# Altium schematic symbol library SMD Passive.SchLib: 216 symbols (part 3 of 4)
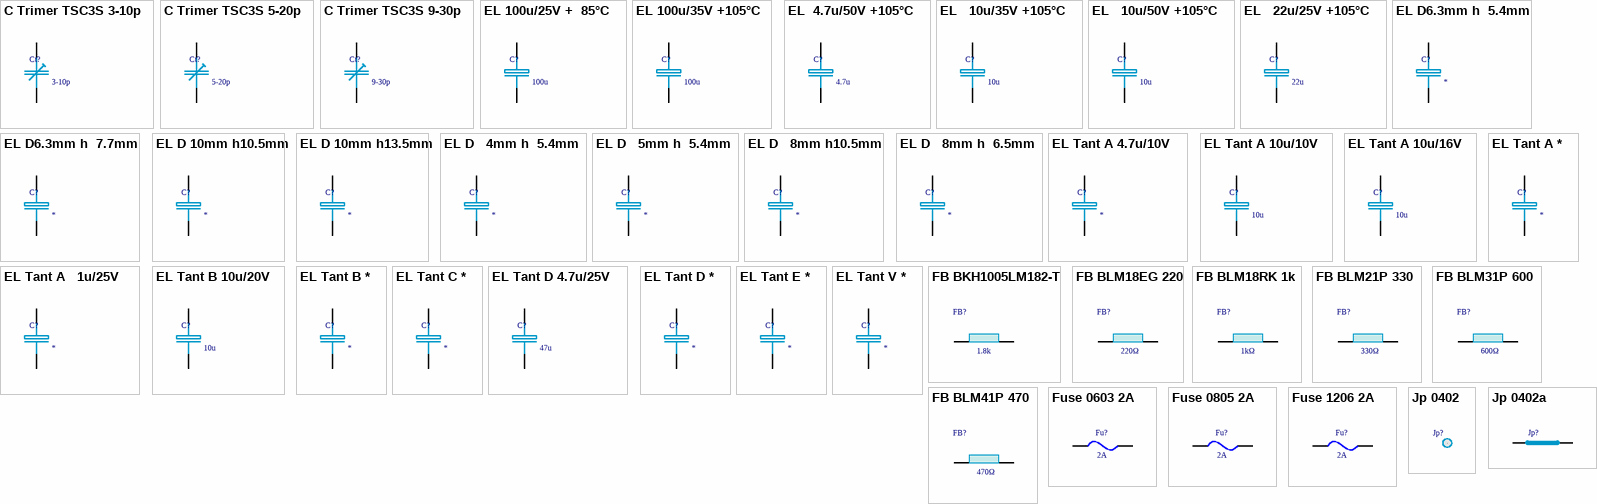
[diagram p7: symbols C Trimer TSC3S 3-10p to Jp 0402a]

## EL   10u/35V +105°C
designator C?, comment 10u
SMD D   5mm h  5.4mm; Part Number: CK1V100M-CRD54; Manufacturer: Fujicon; VDC: 35V; Tolerance %: ±20%; TYPE: Capacitors; Load life: 2000h @ +105°C; Mount Type: SMT; Publisher: Hefest; Manufacturer Alternate: *; Part Number Alternate: *; Published: 07.04.2019; Supplier 1: Comet; Supplier Part Number 1: CE 10uF 35V SMD 105C Fujicon; RoHS: Y; Technology: Electrolytic Aluminum; Package: D5mm h5.4mm; TempCo: *; VAC: *; ESR Ohm: *; ComponentLink1Description: Datasheet Link; ComponentLink1URL: https://store.comet.bg/download-file.php?id=10100; Temperature Range: -40°C ~ +105°C; Price: 0.086; Value: 10u
simulation model Capacitor (Model Description)
signal-integrity model Capacitor (Model Description)
footprint EL SMD D5 h5.4
pins: 1, 2
1 alternate drawing of the same symbol

## EL   10u/50V +105°C
designator C?, comment 10u
SMD D   5mm h  5.4mm; Part Number: CK1H100M-CRE54; Manufacturer: Fujicon; VDC: 50V; Tolerance %: ±20%; TYPE: Capacitors; Load life: 2000h @ +105°C; Mount Type: SMT; Publisher: Hefest; Manufacturer Alternate: *; Part Number Alternate: *; Published: 07.04.2019; Supplier 1: Comet; Supplier Part Number 1: CE 10uF 50V SMD 105C Fujicon; RoHS: Y; Technology: Electrolytic Aluminum; Package: D5mm h5.4mm; TempCo: *; VAC: *; ESR Ohm: *; ComponentLink1Description: Datasheet Link; ComponentLink1URL: https://store.comet.bg/download-file.php?id=10100; Temperature Range: -40°C ~ +105°C; Price: 0.106; Value: 10u
simulation model Capacitor (Model Description)
signal-integrity model Capacitor (Model Description)
footprint EL SMD D5 h5.4
pins: 1, 2
1 alternate drawing of the same symbol

## EL   22u/25V +105°C
designator C?, comment 22u
SMD D   5mm h  5.4mm; Part Number: CK1E220M-CRD54; Manufacturer: Fujicon; VDC: 25V; Tolerance %: ±20%; TYPE: Capacitors; Load life: 2000h @ +105°C; Mount Type: SMT; Publisher: Hefest; Manufacturer Alternate: *; Part Number Alternate: *; Published: 07.04.2019; Supplier 1: Comet; Supplier Part Number 1: CE 22uF 25V SMD 105C Fujicon; RoHS: Y; Technology: Electrolytic Aluminum; Package: D5mm h5.4mm; TempCo: *; VAC: *; ESR Ohm: *; ComponentLink1Description: Datasheet Link; ComponentLink1URL: https://store.comet.bg/download-file.php?id=10100; Temperature Range: -40°C ~ +105°C; Price: *; Value: 22u
simulation model Capacitor (Model Description)
signal-integrity model Capacitor (Model Description)
footprint C 1808(4520)x2
pins: 1, 2
1 alternate drawing of the same symbol

## EL D6.3mm h  5.4mm
designator C?
SMD D6.3mm h  5.4mm; Manufacturer: Fujicon; Tolerance %: ±20%; TYPE: Capacitors; Load life: 2000h @ +105°C; Part Number: *; Mount Type: SMT; Publisher: Hefest; Manufacturer Alternate: *; Part Number Alternate: *; Published: 07.04.2019; Supplier 1: Comet; Supplier 2: *; Supplier 3: *; Supplier Part Number 1: *; Supplier Part Number 2: *; Supplier Part Number 3: *; RoHS: Y; Technology: Electrolytic Aluminum; Package: D6.3mm h5.4mm; VDC: *; TempCo: *; VAC: *; ESR Ohm: *; ComponentLink1Description: Datasheet Link; ComponentLink1URL: https://store.comet.bg/download-file.php?id=10100; Temperature Range: -40°C ~ +105°C; Price: *; Value: *
simulation model Capacitor (Model Description)
signal-integrity model Capacitor (Model Description)
footprint EL SMD D6.3 h5.4
pins: 1, 2
1 alternate drawing of the same symbol

## EL D6.3mm h  7.7mm
designator C?
SMD D6.3mm h  7.7mm; Manufacturer: Fujicon; Tolerance %: ±20%; TYPE: Capacitors; Load life: 2000h @ +105°C; Part Number: *; Mount Type: SMT; Publisher: Hefest; Manufacturer Alternate: *; Part Number Alternate: *; Published: 07.04.2019; Supplier 1: Comet; Supplier Part Number 1: *; RoHS: Y; Technology: Electrolytic Aluminum; Package: D6.3mm h7.7mm; VDC: *; TempCo: *; VAC: *; ESR Ohm: *; ComponentLink1Description: Datasheet Link; ComponentLink1URL: https://store.comet.bg/download-file.php?id=10100; Temperature Range: -40°C ~ +105°C; Price: *; Value: *
simulation model Capacitor (Model Description)
signal-integrity model Capacitor (Model Description)
footprint EL SMD D6.3 h7.7
pins: 1, 2
1 alternate drawing of the same symbol

## EL D 10mm h10.5mm
designator C?
SMD D 10mm h10.5mm; Manufacturer: Fujicon; Tolerance %: ±20%; TYPE: Capacitors; Load life: 2000h @ +105°C; Part Number: *; Mount Type: SMT; Publisher: Hefest; Manufacturer Alternate: *; Part Number Alternate: *; Published: 07.04.2019; Supplier 1: Comet; Supplier Part Number 1: *; RoHS: Y; Technology: Electrolytic Aluminum; Package: D10mm h10.5mm; VDC: *; TempCo: *; VAC: *; ESR Ohm: *; ComponentLink1Description: Datasheet Link; ComponentLink1URL: https://store.comet.bg/download-file.php?id=10100; Temperature Range: -40°C ~ +105°C; Price: *; Value: *
simulation model Capacitor (Model Description)
signal-integrity model Capacitor (Model Description)
footprint EL SMD D10 h10.5
pins: 1, 2
1 alternate drawing of the same symbol

## EL D 10mm h13.5mm
designator C?
SMD D 10mm h13.5mm; Manufacturer: Fujicon; Tolerance %: ±20%; TYPE: Capacitors; Load life: 2000h @ +105°C; Part Number: *; Mount Type: SMT; Publisher: Hefest; Manufacturer Alternate: *; Part Number Alternate: *; Published: 07.04.2019; Supplier 1: Comet; Supplier Part Number 1: *; RoHS: Y; Technology: Electrolytic Aluminum; Package: D10mm h13.5mm; VDC: *; TempCo: *; VAC: *; ESR Ohm: *; ComponentLink1Description: Datasheet Link; ComponentLink1URL: https://store.comet.bg/download-file.php?id=10100; Temperature Range: -40°C ~ +105°C; Price: *; Value: *
simulation model Capacitor (Model Description)
signal-integrity model Capacitor (Model Description)
footprint EL SMD D10 h13.5
pins: 1, 2
1 alternate drawing of the same symbol

## EL D   4mm h  5.4mm
designator C?
SMD D   4mm h  5.4mm; Manufacturer: Fujicon; Tolerance %: ±20%; TYPE: Capacitors; Load life: 2000h @ +105°C; Part Number: *; Mount Type: SMT; Publisher: Hefest; Manufacturer Alternate: *; Part Number Alternate: *; Published: 07.04.2019; Supplier 1: Comet; Supplier Part Number 1: *; RoHS: Y; Technology: Electrolytic Aluminum; Package: D4mm h5.4mm; VDC: *; TempCo: *; VAC: *; ESR Ohm: *; ComponentLink1Description: Datasheet Link; ComponentLink1URL: https://store.comet.bg/download-file.php?id=10100; Temperature Range: -40°C ~ +105°C; Price: *; Value: *
simulation model Capacitor (Model Description)
signal-integrity model Capacitor (Model Description)
footprint EL SMD D4 h5.4
pins: 1, 2
1 alternate drawing of the same symbol

## EL D   5mm h  5.4mm
designator C?
SMD D   5mm h  5.4mm; Manufacturer: Fujicon; Tolerance %: ±20%; TYPE: Capacitors; Load life: 2000h @ +105°C; Part Number: *; Mount Type: SMT; Publisher: Hefest; Manufacturer Alternate: *; Part Number Alternate: *; Published: 07.04.2019; Supplier 1: Comet; Supplier Part Number 1: *; RoHS: Y; Technology: Electrolytic Aluminum; Package: D5mm h5.4mm; VDC: *; TempCo: *; VAC: *; ESR Ohm: *; ComponentLink1Description: Datasheet Link; ComponentLink1URL: https://store.comet.bg/download-file.php?id=10100; Temperature Range: -40°C ~ +105°C; Price: *; Value: *
simulation model Capacitor (Model Description)
signal-integrity model Capacitor (Model Description)
footprint EL SMD D5 h5.4
pins: 1, 2
1 alternate drawing of the same symbol

## EL D   8mm h10.5mm
designator C?
SMD D   8mm h10.5mm; Manufacturer: Fujicon; Tolerance %: ±20%; TYPE: Capacitors; Load life: 2000h @ +105°C; Part Number: *; Mount Type: SMT; Publisher: Hefest; Manufacturer Alternate: *; Part Number Alternate: *; Published: 07.04.2019; Supplier 1: Comet; Supplier Part Number 1: *; RoHS: Y; Technology: Electrolytic Aluminum; Package: D8mm h10.5mm; VDC: *; TempCo: *; VAC: *; ESR Ohm: *; ComponentLink1Description: Datasheet Link; ComponentLink1URL: https://store.comet.bg/download-file.php?id=10100; Temperature Range: -40°C ~ +105°C; Price: *; Value: *
simulation model Capacitor (Model Description)
signal-integrity model Capacitor (Model Description)
footprint EL SMD D8 h10.5
pins: 1, 2
1 alternate drawing of the same symbol

## EL D   8mm h  6.5mm
designator C?
SMD D   8mm h  6.5mm; Manufacturer: Fujicon; Tolerance %: ±20%; TYPE: Capacitors; Load life: 2000h @ +105°C; Part Number: *; Mount Type: SMT; Publisher: Hefest; Manufacturer Alternate: *; Part Number Alternate: *; Published: 07.04.2019; Supplier 1: Comet; Supplier Part Number 1: *; RoHS: Y; Technology: Electrolytic Aluminum; Package: D8mm h6.5mm; VDC: *; TempCo: *; VAC: *; ESR Ohm: *; ComponentLink1Description: Datasheet Link; ComponentLink1URL: https://store.comet.bg/download-file.php?id=10100; Temperature Range: -40°C ~ +105°C; Price: *; Value: *
simulation model Capacitor (Model Description)
signal-integrity model Capacitor (Model Description)
footprint EL SMD D8 h6.5
pins: 1, 2
1 alternate drawing of the same symbol

## EL Tant A 4.7u/10V
designator C?
SMD Case A 10V    5Ω 0.12A; Part Number: 293D475X9010A2TE3; Manufacturer: Vishay; Tolerance %: ±10%; ESR Ohm: 5; TYPE: Capacitors; Mount Type: SMT; Publisher: Hefest; Manufacturer Alternate: *; Part Number Alternate: *; Published: 07.04.2019; Supplier 1: Comet; Supplier Part Number 1: TANT A SMD 4.7uF 10V; RoHS: Y; Technology: Electrolytic Tantallum; Package: A 1206 (3216-18)mm; VDC: *; TempCo: *; VAC: *; ComponentLink1Description: Datasheet Link; ComponentLink1URL: https://store.comet.bg/download-file.php?id=10100; Temperature Range: -55°C ~ +125°C; Price: *; Load life: *; Value: *
simulation model Capacitor (Model Description)
signal-integrity model Capacitor (Model Description)
footprint EL-T Case A 1206(3216-18) (Capacitor, SM Tantalum; Body 3.2 x 1.8 mm (LxW typ))
pins: 1, 2
1 alternate drawing of the same symbol

## EL Tant A 10u/10V
designator C?, comment 10u
SMD Case A 10V 3.4Ω 0.15A; Part Number: 293D106X9016A2TE3; Manufacturer: Vishay; Tolerance %: ±10%; ESR Ohm: 3.4; TYPE: Capacitors; Mount Type: SMT; Publisher: Hefest; Manufacturer Alternate: *; Part Number Alternate: *; Published: 07.04.2019; Supplier 1: Comet; Supplier Part Number 1: TANT A SMD 10uF 16V; RoHS: Y; Technology: Electrolytic Tantallum; Package: A 1206 (3216-18)mm; VDC: 10V; TempCo: *; VAC: *; ComponentLink1Description: Datasheet Link; ComponentLink1URL: https://store.comet.bg/download-file.php?id=10100; Temperature Range: -55°C ~ +125°C; Price: *; Load life: *; Value: 10u
simulation model Capacitor (Model Description)
signal-integrity model Capacitor (Model Description)
footprint EL-T Case A 1206(3216-18) (Capacitor, SM Tantalum; Body 3.2 x 1.8 mm (LxW typ))
pins: 1, 2
1 alternate drawing of the same symbol

## EL Tant A 10u/16V
designator C?, comment 10u
SMD Case A 16V    3Ω 0.16A; Part Number: 293D106X9016A2TE3; Manufacturer: Vishay; Tolerance %: ±10%; ESR Ohm: 3; TYPE: Capacitors; Mount Type: SMT; Publisher: Hefest; Manufacturer Alternate: *; Part Number Alternate: *; Published: 07.04.2019; Supplier 1: Comet; Supplier Part Number 1: TANT A SMD 10uF 16V; RoHS: Y; Technology: Electrolytic Tantallum; Package: A 1206 (3216-18)mm; VDC: 16V; TempCo: *; VAC: *; ComponentLink1Description: Datasheet Link; ComponentLink1URL: https://store.comet.bg/download-file.php?id=10100; Temperature Range: -55°C ~ +125°C; Price: *; Load life: *; Value: 10u
simulation model Capacitor (Model Description)
signal-integrity model Capacitor (Model Description)
footprint EL-T Case A 1206(3216-18) (Capacitor, SM Tantalum; Body 3.2 x 1.8 mm (LxW typ))
pins: 1, 2
1 alternate drawing of the same symbol

## EL Tant A   1u/25V
designator C?
SMD Case A 25V 7.6Ω 0.1A; Part Number: 293D105X9025A2TE3; Manufacturer: Vishay; Tolerance %: ±10%; ESR Ohm: 7.6; TYPE: Capacitors; Mount Type: SMT; Publisher: Hefest; Manufacturer Alternate: *; Part Number Alternate: *; Published: 07.04.2019; Supplier 1: Comet; Supplier Part Number 1: TANT A SMD 1uF 25V; RoHS: Y; Technology: Electrolytic Tantallum; Package: A 1206 (3216-18)mm; VDC: *; TempCo: *; VAC: *; ComponentLink1Description: Datasheet Link; ComponentLink1URL: https://store.comet.bg/download-file.php?id=10100; Temperature Range: -55°C ~ +125°C; Price: *; Load life: *; Value: *
simulation model Capacitor (Model Description)
signal-integrity model Capacitor (Model Description)
footprint EL-T Case A 1206(3216-18) (Capacitor, SM Tantalum; Body 3.2 x 1.8 mm (LxW typ))
pins: 1, 2
1 alternate drawing of the same symbol

## EL Tant A *
designator C?
SMD Case A; Manufacturer: Vishay; Tolerance %: ±10%; TYPE: Capacitors; Part Number: *; Mount Type: SMT; Publisher: Hefest; Manufacturer Alternate: *; Part Number Alternate: *; Published: 07.04.2019; Supplier 1: Comet; Supplier Part Number 1: *; RoHS: Y; Technology: Electrolytic Tantallum; Package: A 1206 (3216-18)mm; VDC: *; TempCo: *; VAC: *; ESR Ohm: *; ComponentLink1Description: Datasheet Link; ComponentLink1URL: https://store.comet.bg/download-file.php?id=10100; Temperature Range: -55°C ~ +125°C; Price: *; Load life: *; Value: *
simulation model Capacitor (Model Description)
signal-integrity model Capacitor (Model Description)
footprint EL-T Case A 1206(3216-18) (Capacitor, SM Tantalum; Body 3.2 x 1.8 mm (LxW typ))
pins: 1, 2
1 alternate drawing of the same symbol

## EL Tant B 10u/20V
designator C?, comment 10u
SMD Case B 20V 2.1ohm; Part Number: TAJB106K020RNJ; Manufacturer: AVX; Tolerance %: ±10%; ESR Ohm: 2.1; TYPE: Capacitors; Mount Type: SMT; Publisher: Hefest; Manufacturer Alternate: *; Part Number Alternate: *; Published: 07.04.2019; Supplier 1: Comet; Supplier Part Number 1: TANT B SMD 10uF 20V; RoHS: Y; Technology: Electrolytic Tantallum; Package: B 1210 (3528-21)mm; VDC: 20V; TempCo: *; VAC: *; ComponentLink1Description: Datasheet Link; ComponentLink1URL: https://store.comet.bg/download-file.php?id=4686; Temperature Range: -55°C ~ +125°C; Price: *; Load life: *; Value: 10u
simulation model Capacitor (Model Description)
signal-integrity model Capacitor (Model Description)
footprint EL-T Case B 1210(3528-21) (Capacitor, SM Tantalum; Body 3.5 x 2.1 mm (LxW typ))
pins: 1, 2
1 alternate drawing of the same symbol

## EL Tant B *
designator C?
SMD Case B; Manufacturer: Vishay; Tolerance %: ±10%; TYPE: Capacitors; Part Number: *; Mount Type: SMT; Publisher: Hefest; Manufacturer Alternate: *; Part Number Alternate: *; Published: 07.04.2019; Supplier 1: Comet; Supplier Part Number 1: *; RoHS: Y; Technology: Electrolytic Tantallum; Package: B 1210 (3528-21)mm; VDC: *; TempCo: *; VAC: *; ESR Ohm: *; ComponentLink1Description: Datasheet Link; ComponentLink1URL: https://store.comet.bg/download-file.php?id=10100; Temperature Range: -55°C ~ +125°C; Price: *; Load life: *; Value: *
simulation model Capacitor (Model Description)
signal-integrity model Capacitor (Model Description)
footprint EL-T Case B 1210(3528-21) (Capacitor, SM Tantalum; Body 3.5 x 2.1 mm (LxW typ))
pins: 1, 2
1 alternate drawing of the same symbol

## EL Tant C *
designator C?
SMD Case C; Manufacturer: Vishay; Tolerance %: ±10%; TYPE: Capacitors; Part Number: *; Mount Type: SMT; Publisher: Hefest; Manufacturer Alternate: *; Part Number Alternate: *; Published: 07.04.2019; Supplier 1: Comet; Supplier Part Number 1: *; RoHS: Y; Technology: Electrolytic Tantallum; Package: C 2312 (6032-28)mm; VDC: *; TempCo: *; VAC: *; ESR Ohm: *; ComponentLink1Description: Datasheet Link; ComponentLink1URL: https://store.comet.bg/download-file.php?id=10100; Temperature Range: -55°C ~ +125°C; Price: *; Load life: *; Value: *
simulation model Capacitor (Model Description)
signal-integrity model Capacitor (Model Description)
footprint EL-T Case C 2312(6032-28) (Capacitor, SM Tantalum; Body 6.0 x 2.8 mm (LxW typ))
pins: 1, 2
1 alternate drawing of the same symbol

## EL Tant D 4.7u/25V
designator C?, comment 47u
SMD Case D 25V 0.9ohm; Part Number: TAJD476K025RNJ; Manufacturer: AVX; Tolerance %: ±10%; TYPE: Capacitors; Mount Type: SMT; Publisher: Hefest; Manufacturer Alternate: *; Part Number Alternate: *; Published: 07.04.2019; Supplier 1: Comet; Supplier Part Number 1: TANT D SMD 47uF 25V; RoHS: Y; Technology: Electrolytic Tantallum; Package: D 2917 (7343-31)mm; VDC: 25V; TempCo: *; VAC: *; ESR Ohm: *; ComponentLink1Description: Datasheet Link; ComponentLink1URL: https://store.comet.bg/download-file.php?id=10100; Temperature Range: -55°C ~ +125°C; Price: *; Load life: *; Value: 47u
simulation model Capacitor (Model Description)
signal-integrity model Capacitor (Model Description)
footprint EL-T Case D 2917(7343-31) (Capacitor, SM Tantalum; Body 7.3 x 3.1 mm (LxW typ))
pins: 1, 2
1 alternate drawing of the same symbol

## EL Tant D *
designator C?
SMD Case D; Manufacturer: Vishay; Tolerance %: ±10%; TYPE: Capacitors; Part Number: *; Mount Type: SMT; Publisher: Hefest; Manufacturer Alternate: *; Part Number Alternate: *; Published: 07.04.2019; Supplier 1: Comet; Supplier Part Number 1: *; RoHS: Y; Technology: Electrolytic Tantallum; Package: D 2917 (7343-31)mm; VDC: *; TempCo: *; VAC: *; ESR Ohm: *; ComponentLink1Description: Datasheet Link; ComponentLink1URL: https://store.comet.bg/download-file.php?id=10100; Temperature Range: -55°C ~ +125°C; Price: *; Load life: *; Value: *
simulation model Capacitor (Model Description)
signal-integrity model Capacitor (Model Description)
footprint EL-T Case D 2917(7343-31) (Capacitor, SM Tantalum; Body 7.3 x 3.1 mm (LxW typ))
pins: 1, 2
1 alternate drawing of the same symbol

## EL Tant E *
designator C?
SMD Case E; Manufacturer: Vishay; Tolerance %: ±10%; TYPE: Capacitors; Part Number: *; Mount Type: SMT; Publisher: Hefest; Manufacturer Alternate: *; Part Number Alternate: *; Published: 07.04.2019; Supplier 1: Comet; Supplier Part Number 1: *; RoHS: Y; Technology: Electrolytic Tantallum; Package: E 2917 (7353-43)mm; VDC: *; TempCo: *; VAC: *; ESR Ohm: *; ComponentLink1Description: Datasheet Link; ComponentLink1URL: https://store.comet.bg/download-file.php?id=10100; Temperature Range: -55°C ~ +125°C; Price: *; Load life: *; Value: *
simulation model Capacitor (Model Description)
signal-integrity model Capacitor (Model Description)
footprint EL-T Case E 2917(7353-43) (Capacitor, SM Tantalum; Body 7.3 x 4.3 mm (LxW typ))
pins: 1, 2
1 alternate drawing of the same symbol

## EL Tant V *
designator C?
SMD Case V; Manufacturer: Vishay; Tolerance %: ±10%; TYPE: Capacitors; Part Number: *; Mount Type: SMT; Publisher: Hefest; Manufacturer Alternate: *; Part Number Alternate: *; Published: 07.04.2019; Supplier 1: Comet; Supplier Part Number 1: *; RoHS: Y; Technology: Electrolytic Tantallum; Package: V 2917 (7353-38)mm; VDC: *; TempCo: *; VAC: *; ESR Ohm: *; ComponentLink1Description: Datasheet Link; ComponentLink1URL: https://store.comet.bg/download-file.php?id=10100; Temperature Range: -55°C ~ +125°C; Price: *; Load life: *; Value: *
simulation model Capacitor (Model Description)
signal-integrity model Capacitor (Model Description)
footprint EL-T Case V 2917(7353-38) (Capacitor, SM Tantalum; Body 7.3 x 3.8 mm (LxW typ))
pins: 1, 2
1 alternate drawing of the same symbol

## FB BKH1005LM182-T
designator FB?, comment ZTyp@100MHz: 1.8k  (hidden comment: 0.525u)
SMD 0402    0.2A 1.8kΩ/2Ω; Part Number: BKH1005LM182-T; Manufacturer: Murata; TYPE: Ferrite Bead; Ind: 0.52uH; DC Resistance: 2Ω; Material: Ferrite; Package-mm: 1005; Tolerance %: ±25%; Ztyp@1GHz: 2.7k; Imax: 0.2A; Irms: *; Isat: *; Technology: Chip; Published: 07.04.2019; Publisher: Hefest; Mount Type: SMT; Package: 0402; ComponentLink1Description: Datasheet Link; ComponentLink1URL: https://www.mouser.bg/datasheet/2/396/mlci12_e-1516614.pdf; RoHS: Y; Manufacturer Alternate: *; Supplier 1: Mouser; Supplier Part Number 1: 963-BKH1005LM182-T; Part Number Alternate: *; Price: 0.2; Value: 0.525u; Temperature Range: -55°C ~ +125°C
signal-integrity model Inductor
simulation model Inductor
footprint FB 0402(1005)x0.5
pins: 1, 2
1 alternate drawing of the same symbol

## FB BLM18EG 220
designator FB?, comment ZTyp@100MHz: 220Ω  (hidden comment: 0.525u)
SMD 0603    2A 220Ω/50mΩ; Part Number: BLM18EG221SN1D; Manufacturer: Murata; TYPE: Ferrite Bead; Ind: 0.52uH; DC Resistance: 50mΩ; Material: Ferrite; Package-mm: 1608; Tolerance %: ±25%; Ztyp@1GHz: 260Ω; Imax: 2A; Irms: *; Isat: *; Technology: Chip; Published: 07.04.2019; Publisher: Hefest; Mount Type: SMT; Package: 0603; ComponentLink1Description: Datasheet Link; ComponentLink1URL: https://store.comet.bg/download-file.php?id=15650; RoHS: Y; Manufacturer Alternate: *; Supplier 1: Comet; Supplier Part Number 1: BLM18EG221SN1D; Part Number Alternate: *; Price: 0.08; Value: 0.525u; Temperature Range: -55°C ~ +125°C
signal-integrity model Inductor
simulation model Inductor
footprint FB 0603(1608)
pins: 1, 2
1 alternate drawing of the same symbol

## FB BLM18RK 1k
designator FB?, comment ZTyp@100MHz: 1kΩ  (hidden comment: 1.6u)
SMD 0603   0.2A 1k/0.8Ω; Part Number: BLM18RK102SN1D; Manufacturer: Murata; TYPE: Ferrite Bead; Ind: 1.6uH; DC Resistance: 0.8Ω; Material: Ferrite; Package-mm: 1608; Tolerance %: ±25%; Imax: 0.2A; Irms: *; Isat: *; Technology: Chip; Published: 07.04.2019; Publisher: Hefest; Mount Type: SMT; Package: 0603; ComponentLink1Description: Datasheet Link; ComponentLink1URL: https://store.comet.bg/download-file.php?id=8565; RoHS: Y; Manufacturer Alternate: *; Supplier 1: Comet; Supplier Part Number 1: BLM18RK102SN1D; Part Number Alternate: *; Price: 0.03; Value: 1.6u; Temperature Range: -55°C ~ +125°C; Ztyp@1GHz: *
signal-integrity model Inductor
simulation model Inductor
footprint FB 0603(1608)
pins: 1, 2
1 alternate drawing of the same symbol

## FB BLM21P 330
designator FB?, comment ZTyp@100MHz: 330Ω  (hidden comment: 0.525u)
SMD 0805 1.5A 330Ω/90mΩ; Part Number: BLM21PG331SN1D; Manufacturer: Murata; TYPE: Ferrite Bead; Ind: 0.525uH; DC Resistance: 90mΩ; Material: Ferrite; Package-mm: 2012; Tolerance %: ±20%; Temperature Range: -55°C ~ +125°C; Imax: 1.5A; Irms: *; Isat: *; Technology: Chip; Published: 07.04.2019; Publisher: Hefest; Mount Type: SMT; Package: 0805; ComponentLink1Description: Datasheet Link; ComponentLink1URL: https://store.comet.bg/download-file.php?id=1453; RoHS: Y; Ztyp@1GHz: *; Manufacturer Alternate: *; Supplier 1: Comet; Supplier Part Number 1: BLM21PG331SN1D; Part Number Alternate: *; Price: 0.032; Value: 0.525u
signal-integrity model Inductor
simulation model Inductor
footprint FB 0805(2012)
pins: 1, 2
1 alternate drawing of the same symbol

## FB BLM31P 600
designator FB?, comment ZTyp@100MHz: 600Ω  (hidden comment: 0.955u)
SMD 1206 1.5A 600Ω/80mΩ; Part Number: BLM31PG601SN1L; Manufacturer: Murata; TYPE: Ferrite Bead; Ind: 0.955uH; DC Resistance: 80mΩ; Material: Ferrite; Package-mm: 3216; Tolerance %: ±25%; Temperature Range: -55°C ~ +125°C; Imax: 1.5A; Irms: *; Isat: *; Technology: Chip; Published: 07.04.2019; Publisher: Hefest; Mount Type: SMT; Package: 1206; ComponentLink1Description: Datasheet Link; ComponentLink1URL: https://store.comet.bg/download-file.php?id=5324; RoHS: Y; Ztyp@1GHz: *; Manufacturer Alternate: *; Supplier 1: Comet; Supplier Part Number 1: BLM31PG601SN1L; Part Number Alternate: *; Price: 0.161; Value: 0.955u
signal-integrity model Inductor
simulation model Inductor
footprint FB 1206(3216)
pins: 1, 2
1 alternate drawing of the same symbol

## FB BLM41P 470
designator FB?, comment ZTyp@100MHz: 470Ω  (hidden comment: 0.748u)
SMD 1806    2A 470Ω/50mΩ; Part Number: BLM41PG471SN1L; Manufacturer: Murata; TYPE: Ferrite Bead; Ind: 0.748uH; Imax: 1.5A; DC Resistance: 50mΩ; Material: Ferrite; Package-mm: 4516; Tolerance %: ±25%; Temperature Range: -55°C ~ +125°C; Irms: *; Isat: *; Technology: Chip; Published: 07.04.2019; Publisher: Hefest; Mount Type: SMT; Package: 1806; ComponentLink1Description: Datasheet Link; ComponentLink1URL: https://store.comet.bg/download-file.php?id=4896; RoHS: Y; Ztyp@1GHz: *; Manufacturer Alternate: *; Supplier 1: Comet; Supplier Part Number 1: BLM41PG471SN1L; Part Number Alternate: *; Price: 0.285; Value: 0.748u
signal-integrity model Inductor
simulation model Inductor
footprint FB 1806(4516)
pins: 1, 2
1 alternate drawing of the same symbol

## Fuse 0603 2A
designator Fu?, comment Rated current: 2A  (hidden comment: SF-1206S200)
SMD Fuse 0603 2A Super Quick; Part Number: 3412.0119.22; Manufacturer: SCHURTER; VDC: 32V; Fusing Time: 5s/250%; Tolerance %: ±20%; I²t (A²s): 0.2A²s/16A; Package-mm: 2012; Value: 28mΩ; Mount Type: SMT; Publisher: Hefest; Manufacturer Alternate: *; Published: 07.04.2019; Supplier 1: Comet; Supplier Part Number 1: USF 0603 2A; RoHS: Y; Technology: Super Quick; Package: 0805; ComponentLink1Description: Datasheet Link; ComponentLink1URL: https://ch.schurter.com/en/datasheet/typ_USF_0603.pdf; Price: 0.73; Part Number Alternate: *; TYPE: Fuses; Value Code: *; Fusing Current @5s: *; Temperature Range: -55°C ~ +90°C; VAC: 32V
footprint F 0805(2012)
signal-integrity model Resistor (Model Description)
simulation model Model Name (Model Description)
pins: 1, 2
1 alternate drawing of the same symbol

## Fuse 0805 2A
designator Fu?, comment Rated current: 2A  (hidden comment: SF-1206S200)
SMD Fuse 0805 2A Fast; Part Number: MCF0805B2R00FSTR; Manufacturer: Multicomp; VDC: 63V; Fusing Time: 5s/250%; Tolerance %: ±20%; I²t (A²s): 0.03A²s/50A; Package-mm: 2012; Value: 80mΩ; Fusing Current @5s: 4A; Mount Type: SMT; Publisher: Hefest; Manufacturer Alternate: *; Published: 07.04.2019; Supplier 1: Comet; Supplier Part Number 1: MCF0805B2R00F; RoHS: Y; Technology: Fast; Package: 0805; ComponentLink1Description: Datasheet Link; ComponentLink1URL: http://www.farnell.com/datasheets/1582045.pdf?_ga=2.186957483.2070053266.1555834923-2006385665.1555834923; Price: 1.68; Part Number Alternate: *; TYPE: Fuses; Value Code: *; Temperature Range: -55°C ~ +155°C; VAC: *
footprint F 0805(2012)
signal-integrity model Resistor (Model Description)
simulation model Model Name (Model Description)
pins: 1, 2
1 alternate drawing of the same symbol

## Fuse 1206 2A
designator Fu?, comment Rated current: 2A  (hidden comment: SF-1206S200)
SMD Fuse 1206 2A Slow; Part Number: SF-1206S200-2; Manufacturer: Bourns; VDC: 63V; Fusing Time: 5s/250%; Tolerance %: ±20%; I²t (A²s): 0.339A²s/20A; Package-mm: 3216; Value: 41mΩ; Fusing Current @5s: 5A; Mount Type: SMT; Publisher: Hefest; Manufacturer Alternate: *; Published: 07.04.2019; Supplier 1: Mouser; Supplier Part Number 1: 652-SF-1206S200-2; RoHS: Y; Technology: Slow; Package: 1206; ComponentLink1Description: Datasheet Link; ComponentLink1URL: https://www.bourns.com/docs/Product-Datasheets/sf1206s.pdf; Price: 1.38; Part Number Alternate: *; TYPE: Fuses; Value Code: *; Temperature Range: -55°C ~ +155°C; VAC: *
footprint F 1206(3216)
signal-integrity model Resistor (Model Description)
simulation model Model Name (Model Description)
pins: 1, 2
1 alternate drawing of the same symbol

## Jp 0402
designator Jp?, comment 0.05  (value not drawn)
SMD 0402 0 Ω; Part Number: 0603SAJ000JT50; Manufacturer: UniOhm; Value 1: 0; Tolerance %: ±5%; Package-mm: 1005; Current: 1A; Resistance: <50mΩ; Mount Type: SMT; Publisher: Hefest; Manufacturer Alternate: *; Published: 07.04.2019; Supplier 1: Comet; Supplier Part Number 1: R0402 0R 5%; RoHS: Y; Technology: Thick film; Package: 0402; VDC: *; TempCo: *; ComponentLink1Description: Datasheet Link; ComponentLink1URL: https://store.comet.bg/download-file.php?id=1225; Temperature Range: -55°C ~ +125°C; Price: 0.011; Part Number Alternate: *; TYPE: Jumper; Value: 0.05; Value Code: 0; Power: *
footprint J 0402(1005)
simulation model Resistor (Model Description)
signal-integrity model Resistor (Model Description)
pins: 1, 2

## Jp 0402a
designator Jp?, comment 0.05  (value not drawn)
SMD 0402 0 Ω; Part Number: 0603SAJ000JT50; Manufacturer: UniOhm; Tolerance %: ±5%; Package-mm: 1005; Value Code: 0; Current: 1A; Resistance: <50mΩ; Mount Type: SMT; Publisher: Hefest; Manufacturer Alternate: *; Published: 07.04.2019; Supplier 1: Comet; Supplier Part Number 1: R0603 0R 5%; RoHS: Y; Technology: Thick film; Package: 0402; VDC: *; TempCo: *; ComponentLink1Description: Datasheet Link; ComponentLink1URL: https://store.comet.bg/download-file.php?id=1225; Temperature Range: -55°C ~ +125°C; Price: 0.011; Part Number Alternate: *; TYPE: Jumper; Value: 0.05; Power: *; Value 1: 0
footprint J 0402(1005)A
simulation model Resistor (Model Description)
signal-integrity model Resistor (Model Description)
pins: 1, 2
1 alternate drawing of the same symbol

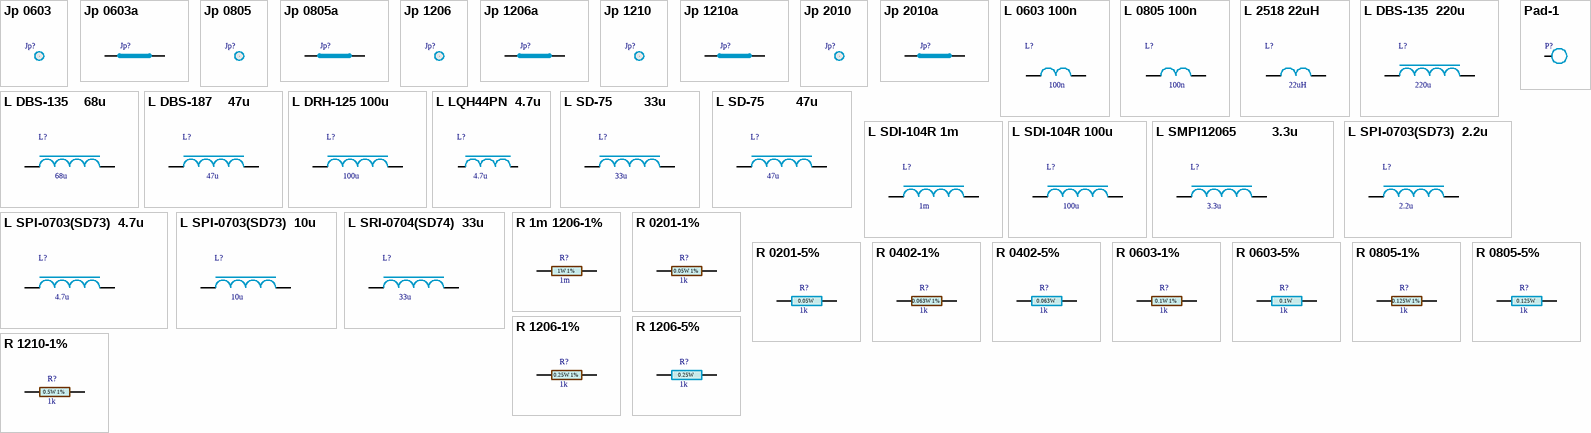
[diagram p4: symbols Jp 0603 to R 1210-1%]

## Jp 0603
designator Jp?, comment 0.05  (value not drawn)
SMD 0603 0 Ω; Part Number: 0603SAJ000JT50; Manufacturer: UniOhm; Tolerance %: ±5%; Package-mm: 1608; Value Code: 0; Current: 1A; Resistance: <50mΩ; Mount Type: SMT; Publisher: Hefest; Manufacturer Alternate: *; Published: 07.04.2019; Supplier 1: Comet; Supplier Part Number 1: R0603 0R 5%; RoHS: Y; Technology: Thick film; Package: 0603; VDC: *; TempCo: *; ComponentLink1Description: Datasheet Link; ComponentLink1URL: https://store.comet.bg/download-file.php?id=1225; Temperature Range: -55°C ~ +125°C; Price: 0.012; Part Number Alternate: *; TYPE: Jumper; Power: *; Value: 0.05; Value 1: 0
footprint J 0603(1608)
simulation model Resistor (Model Description)
signal-integrity model Resistor (Model Description)
pins: 1, 2

## Jp 0603a
designator Jp?, comment 0.05  (value not drawn)
SMD 0603 0 Ω; Part Number: 0603SAJ000JT50; Manufacturer: UniOhm; Tolerance %: ±5%; Value 1: 0; Package-mm: 1608; Current: 1A; Resistance: <50mΩ; Mount Type: SMT; Publisher: Hefest; Manufacturer Alternate: *; Published: 07.04.2019; Supplier 1: Comet; Supplier Part Number 1: R0603 0R 5%; RoHS: Y; Technology: Thick film; Package: 0603; VDC: *; TempCo: *; ComponentLink1Description: Datasheet Link; ComponentLink1URL: https://store.comet.bg/download-file.php?id=1225; Temperature Range: -55°C ~ +125°C; Price: 0.012; Part Number Alternate: *; TYPE: Jumper; Value Code: 0; Power: *; Value: 0.05
footprint J 0603(1608)A
simulation model Resistor (Model Description)
signal-integrity model Resistor (Model Description)
pins: 1, 2
1 alternate drawing of the same symbol

## Jp 0805
designator Jp?, comment 0.05  (value not drawn)
SMD 0805 0 Ω; Part Number: 0805S8J000JT50; Manufacturer: UniOhm; Tolerance %: ±5%; Value 1: 0; Package-mm: 2012; Current: 2A; Resistance: <50mΩ; Mount Type: SMT; Publisher: Hefest; Manufacturer Alternate: *; Published: 07.04.2019; Supplier 1: Comet; Supplier Part Number 1: R0805 0R 5%; RoHS: Y; Technology: Thick film; Package: 0805; VDC: *; TempCo: *; ComponentLink1Description: Datasheet Link; ComponentLink1URL: https://store.comet.bg/download-file.php?id=1225; Temperature Range: -55°C ~ +125°C; Price: 0.018; Part Number Alternate: *; TYPE: Jumper; Value Code: 0; Power: *; Value: 0.05
footprint J 0805(2012)
simulation model Resistor (Model Description)
signal-integrity model Resistor (Model Description)
pins: 1, 2

## Jp 0805a
designator Jp?, comment 0.05  (value not drawn)
SMD 0805 0 Ω; Part Number: 0805S8J000JT50; Manufacturer: UniOhm; Tolerance %: ±5%; Value 1: 0; Package-mm: 2012; Current: 2A; Resistance: <50mΩ; Mount Type: SMT; Publisher: Hefest; Manufacturer Alternate: *; Published: 07.04.2019; Supplier 1: Comet; Supplier Part Number 1: R0805 0R 5%; RoHS: Y; Technology: Thick film; Package: 0805; VDC: *; TempCo: *; ComponentLink1Description: Datasheet Link; ComponentLink1URL: https://store.comet.bg/download-file.php?id=1225; Temperature Range: -55°C ~ +125°C; Price: 0.018; Part Number Alternate: *; TYPE: Jumper; Value Code: 0; Power: *; Value: 0.05
footprint J 0805(2012)A
simulation model Resistor (Model Description)
signal-integrity model Resistor (Model Description)
pins: 1, 2
1 alternate drawing of the same symbol

## Jp 1206
designator Jp?, comment 0.05  (value not drawn)
SMD 1206 0 Ω; Part Number: 1206S4J000JT50; Manufacturer: UniOhm; Tolerance %: ±5%; Value 1: 0; Package-mm: 3216; Current: 2A; Resistance: <50mΩ; Mount Type: SMT; Publisher: Hefest; Manufacturer Alternate: *; Published: 07.04.2019; Supplier 1: Comet; Supplier Part Number 1: R1206 0R 5%; RoHS: Y; Technology: Thick film; Package: 1206; VDC: *; TempCo: *; ComponentLink1Description: Datasheet Link; ComponentLink1URL: https://store.comet.bg/download-file.php?id=1225; Temperature Range: -55°C ~ +125°C; Price: 0.028; Part Number Alternate: *; TYPE: Jumper; Value Code: 0; Power: *; Value: 0.05
footprint J 1206(3216)
simulation model Resistor (Model Description)
signal-integrity model Resistor (Model Description)
pins: 1, 2

## Jp 1206a
designator Jp?, comment 0.05  (value not drawn)
SMD 1206 0 Ω; Part Number: 1206S4J000JT50; Manufacturer: UniOhm; Tolerance %: ±5%; Value 1: 0; Package-mm: 3216; Current: 2A; Resistance: <50mΩ; Mount Type: SMT; Publisher: Hefest; Manufacturer Alternate: *; Published: 07.04.2019; Supplier 1: Comet; Supplier Part Number 1: R1206 0R 5%; RoHS: Y; Technology: Thick film; Package: 1206; VDC: *; TempCo: *; ComponentLink1Description: Datasheet Link; ComponentLink1URL: https://store.comet.bg/download-file.php?id=1225; Temperature Range: -55°C ~ +125°C; Price: 0.028; Part Number Alternate: *; TYPE: Jumper; Value Code: 0; Power: *; Value: 0.05
footprint J 1206(3216)A
simulation model Resistor (Model Description)
signal-integrity model Resistor (Model Description)
pins: 1, 2
1 alternate drawing of the same symbol

## Jp 1210
designator Jp?, comment 0.05  (value not drawn)
SMD 1210 0 Ω; Manufacturer: UniOhm; Tolerance %: ±5%; Value 1: 0; Package-mm: 3225; Current: 2A; Resistance: <50mΩ; Part Number: *; Mount Type: SMT; Publisher: Hefest; Manufacturer Alternate: *; Published: 07.04.2019; Supplier 1: Comet; Supplier Part Number 1: *; RoHS: Y; Technology: Thick film; Package: 1210; VDC: *; TempCo: *; ComponentLink1Description: Datasheet Link; ComponentLink1URL: https://store.comet.bg/download-file.php?id=1225; Temperature Range: -55°C ~ +125°C; Price: 0.028; Part Number Alternate: *; TYPE: Jumper; Value Code: 0; Power: *; Value: 0.05
footprint J 1210(3225)
simulation model Resistor (Model Description)
signal-integrity model Resistor (Model Description)
pins: 1, 2

## Jp 1210a
designator Jp?, comment 0.05  (value not drawn)
SMD 1210 0 Ω; Manufacturer: UniOhm; Tolerance %: ±5%; Value 1: 0; Package-mm: 3225; Current: 2A; Resistance: <50mΩ; Part Number: *; Mount Type: SMT; Publisher: Hefest; Manufacturer Alternate: *; Published: 07.04.2019; Supplier 1: Comet; Supplier Part Number 1: *; RoHS: Y; Technology: Thick film; Package: 1210; VDC: *; TempCo: *; ComponentLink1Description: Datasheet Link; ComponentLink1URL: https://store.comet.bg/download-file.php?id=1225; Temperature Range: -55°C ~ +125°C; Price: *; Part Number Alternate: *; TYPE: Jumper; Value Code: 0; Power: *; Value: 0.05
footprint J 1210(3225)A
simulation model Resistor (Model Description)
signal-integrity model Resistor (Model Description)
pins: 1, 2
1 alternate drawing of the same symbol

## Jp 2010
designator Jp?, comment 0.05  (value not drawn)
SMD 2010 0 Ω; Part Number: RC2010JK-070R; Manufacturer: YAGEO; Tolerance %: ±5%; Value 1: 0; Package-mm: 5025; Current: 2A; Resistance: <50mΩ; Mount Type: SMT; Publisher: Hefest; Manufacturer Alternate: *; Published: 07.04.2019; Supplier 1: Comet; Supplier Part Number 1: R2010 0R 5% YAG/ASJ; RoHS: Y; Technology: Thick film; Package: 2010; VDC: *; TempCo: *; ComponentLink1Description: Datasheet Link; ComponentLink1URL: https://store.comet.bg/download-file.php?id=9407; Temperature Range: -55°C ~ +155°C; Price: 0.142; Part Number Alternate: *; TYPE: Jumper; Value Code: 0; Power: *; Value: 0.05
footprint R 2010(5025)
simulation model Resistor (Model Description)
signal-integrity model Resistor (Model Description)
pins: 1, 2

## Jp 2010a
designator Jp?, comment 0.05  (value not drawn)
SMD 2010 0 Ω; Part Number: RC2010JK-070R; Manufacturer: UniOhm; Tolerance %: ±5%; Value 1: 0; Package-mm: 5025; Current: 2A; Resistance: <50mΩ; Mount Type: SMT; Publisher: Hefest; Manufacturer Alternate: *; Published: 07.04.2019; Supplier 1: Comet; Supplier Part Number 1: R2010 0R 5% YAG/ASJ; RoHS: Y; Technology: Thick film; Package: 2010; VDC: *; TempCo: *; ComponentLink1Description: Datasheet Link; ComponentLink1URL: https://store.comet.bg/download-file.php?id=9407; Temperature Range: -55°C ~ +155°C; Price: 0.142; Part Number Alternate: *; TYPE: Jumper; Value Code: 0; Power: *; Value: 0.05
footprint R 2010(5025)
simulation model Resistor (Model Description)
signal-integrity model Resistor (Model Description)
pins: 1, 2
1 alternate drawing of the same symbol

## L 0603 100n
designator L?, comment value 100n  (hidden comment: 100nH)
SMD 0603 Q-34 @150MHz; Part Number: CCFH0603 C R10J; Manufacturer: COILS; TYPE: Inductors; Imax: 0.4A; DCR: 0.58Ω; Material: Ferrite; S.R.F.: 1400MHz; Package-mm: 1608; Tolerance %: ±5%; Q@100MHz: 65; Temperature Range: -55°C ~ +125°C; Ind: 100n; Irms: *; Isat: *; Value1: 0.58Ω; Technology: Chip; Published: 07.04.2019; Publisher: Hefest; Mount Type: SMT; Package: 0603; ComponentLink1Description: Datasheet Link; ComponentLink1URL: https://store.comet.bg/download-file.php?id=1927; RoHS: Y; Manufacturer Alternate: *; Supplier 1: Comet; Supplier Part Number 1: CL0603 100nH CCFH; Part Number Alternate: *; Price: 0.169
signal-integrity model Inductor
simulation model Inductor
footprint L 0603(1608)
pins: 1, 2
3 alternate drawings of the same symbol

## L 0805 100n
designator L?, comment value 100n  (hidden comment: 100nH)
SMD 0805 Q-65 @150MHz; Part Number: CCFH0805 C R10J; Manufacturer: COILS; TYPE: Inductors; Imax: 0.4A; DCR: 0.46Ω; Material: Ferrite; S.R.F.: 1200MHz; Package-mm: 2012; Tolerance %: ±5%; Q@100MHz: 65; Temperature Range: -55°C ~ +125°C; Ind: 100n; Irms: *; Isat: *; Value1: 0.46Ω; Technology: Chip; Published: 07.04.2019; Publisher: Hefest; Mount Type: SMT; Package: 0805; ComponentLink1Description: Datasheet Link; ComponentLink1URL: https://store.comet.bg/download-file.php?id=377; RoHS: Y; Manufacturer Alternate: *; Supplier 1: Comet; Supplier Part Number 1: CL0805 100nH CCFH; Part Number Alternate: *; Price: 0.169
signal-integrity model Inductor
simulation model Inductor
footprint L 0805(2012)
pins: 1, 2
3 alternate drawings of the same symbol

## L 2518 22uH
designator L?, comment value 22uH  (hidden comment: 100nH)
SMD 0805 Q-65 @150MHz; Part Number: CB2518T220K; Manufacturer: Taiyo Yuden; TYPE: Inductors; Imax: 0.16A; DCR: 0.5Ω; Material: Ferrite; S.R.F.: 19MHz; Package-mm: 2518; Tolerance %: ±5%; Q@100MHz: 65; Temperature Range: -55°C ~ +125°C; Ind: 22uH; Irms: *; Isat: *; Value1: 0.5Ω; Technology: Chip; Published: 07.04.2019; Publisher: Hefest; Mount Type: SMT; Package: 1007; ComponentLink1Description: Datasheet Link; ComponentLink1URL: https://www.mouser.bg/datasheet/2/396/wound02_e-13113-1206718.pdf; RoHS: Y; Manufacturer Alternate: *; Supplier 1: Mouser; Supplier Part Number 1: 963-CB2518T220K; Part Number Alternate: *; Price: 0.169
signal-integrity model Inductor
simulation model Inductor
footprint L 1007(2518) (Chip Inductor, 2-Leads, Body 2.50x1.80mm, IPC High Density)
pins: 1, 2
3 alternate drawings of the same symbol

## L DBS-135  220u
designator L?, comment value 220u  (hidden comment: 220uH)
0.8A   0.61Ω 12.8x9.3x5.4mm; TYPE: Inductors; Isat: 0.8A/L 90%; S.R.F.: 5.3MHz; Material: Ferrite; ZTyp@100MHz: * Ω; Temperature Range: -55°C ~ +155°C; Part Number: *; Manufacturer: *; Idc - 40°C: 0.8A; Irms: *; DCR: 0.61Ω; Technology: Power Shielded; Published: 07.04.2019; Publisher: Hefest; Mount Type: SMT; Package: DBS-135; ComponentLink1Description: Datasheet Link; ComponentLink1URL: https://store.comet.bg/download-file.php?id=442; RoHS: Y; Ztyp@1GHz: * Ω; Manufacturer Alternate: *; Supplier 1: Comet; Supplier Part Number 1: *; Package-mm: 12.8x9.3x5.4mm; Part Number Alternate: *; Price: *; Tolerance %: *; Ind: 220u
signal-integrity model Inductor
simulation model Inductor
footprint Dr DBS-135
pins: 1, 2
1 alternate drawing of the same symbol

## L DBS-135    68u
designator L?, comment value 68u  (hidden comment: 68uH)
1.5A     0.2Ω 12.8x9.3x5.4mm; TYPE: Inductors; Isat: 1.4A/L 90%; S.R.F.: 9MHz; Material: Ferrite; ZTyp@100MHz: * Ω; Tolerance %: ±20%; Temperature Range: -55°C ~ +155°C; Part Number: *; Manufacturer: *; Idc - 40°C: 1.5A; Irms: *; DCR: 0.2Ω; Technology: Power; Published: 07.04.2019; Publisher: Hefest; Mount Type: SMT; Package: DBS135; ComponentLink1Description: Datasheet Link; ComponentLink1URL: https://store.comet.bg/download-file.php?id=442; RoHS: Y; Ztyp@1GHz: * Ω; Manufacturer Alternate: *; Supplier 1: Comet; Supplier Part Number 1: CL68uH DBS135; Package-mm: 12.8x9.3x5.4mm; Part Number Alternate: *; Price: 0.85; Ind: 68u
signal-integrity model Inductor
simulation model Inductor
footprint Dr DBS-135
pins: 1, 2
1 alternate drawing of the same symbol

## L DBS-187    47u
designator L?, comment value 47u  (hidden comment: 47uH)
5A      86mΩ 18.5x14.5x7.3mm; Manufacturer: COILS; TYPE: Inductors; Idc - 40°C: 2.2A; Material: Ferrite; ZTyp@100MHz: * Ω; Tolerance %: ±20%; Isat: 5A/L 90%; Temperature Range: -55°C ~ +155°C; Part Number: *; Irms: *; S.R.F.: *; DCR: 86mΩ; Technology: Power Shielded; Published: 07.04.2019; Publisher: Hefest; Mount Type: SMT; Package: DSB-187; ComponentLink1Description: Datasheet Link; ComponentLink1URL: https://store.comet.bg/download-file.php?id=1822; RoHS: Y; Ztyp@1GHz: * Ω; Manufacturer Alternate: *; Supplier 1: Comet; Supplier Part Number 1: CL47uH DBS187; Package-mm: 18.5x14.5x7.3mm; Part Number Alternate: *; Price: 1.026; Ind: 47u
signal-integrity model Inductor
simulation model Inductor
footprint Dr DBS-187
pins: 1, 2
1 alternate drawing of the same symbol

## L DRH-125 100u
designator L?, comment value 100u  (hidden comment: 100uH)
1.45A 0.16Ω 12x12x6mm; Part Number: DRH125NP-101M; Manufacturer: COILS; TYPE: Inductors; Isat: 1.4A/L 90%; Material: Ferrite; ZTyp@100MHz: * Ω; Tolerance %: ±20%; Temperature Range: -55°C ~ +155°C; Idc - 40°C: 1.45A; Irms: *; S.R.F.: *; DCR: 0.16Ω; Technology: Power Shielded; Published: 07.04.2019; Publisher: Hefest; Mount Type: SMT; Package: DRH-125; ComponentLink1Description: Datasheet Link; ComponentLink1URL: https://store.comet.bg/download-file.php?id=2036; RoHS: Y; Ztyp@1GHz: * Ω; Manufacturer Alternate: *; Supplier 1: Comet; Supplier Part Number 1: CL100uH DRH125; Package-mm: 12x12x6mm; Part Number Alternate: *; Price: *; Ind: 100u
signal-integrity model Inductor
simulation model Inductor
footprint Dr DRH-125 (SIR1205)
pins: 1, 2
1 alternate drawing of the same symbol

## L LQH44PN  4.7u
designator L?, comment value 4.7u  (hidden comment: 4.7uH)
1.7A   80mΩ  4x4x1.65mm; Part Number: LQH44PN4R7MP0L; Manufacturer: Murata; TYPE: Inductors; Isat: 1.7A/L 90%; S.R.F.: 40MHz; Material: Ferrite; ZTyp@100MHz: * Ω; Tolerance %: ±20%; Temperature Range: -40°C ~ +85°C; Idc - 40°C: 1.7A; Irms: *; DCR: 80mΩ; Technology: Power; Published: 07.04.2019; Publisher: Hefest; Mount Type: SMT; Package: LQH44; ComponentLink1Description: Datasheet Link; ComponentLink1URL: https://www.mouser.bg/datasheet/2/281/JELF243A-0069-1517830.pdf; RoHS: Y; Ztyp@1GHz: * Ω; Manufacturer Alternate: *; Supplier 1: Mouser; Supplier Part Number 1: 81-LQH44PN4R7MP0L; Package-mm: 4x4x1.65mm; Part Number Alternate: *; Price: 0.90; Ind: 4.7u
signal-integrity model Inductor
simulation model Inductor
footprint Dr LQH44 (4x4x1.65mm)
pins: 1, 2
1 alternate drawing of the same symbol

## L SD-75        33u
designator L?, comment value 33u  (hidden comment: 33uH)
1.2A   0.15Ω  7.3x7.3x5mm; Part Number: SD75 330M - H500-0084NP-10M; Manufacturer: COILS; TYPE: Inductors; Isat: 0.75A/L 90%; Material: Ferrite; ZTyp@100MHz: * Ω; Tolerance %: ±20%; Temperature Range: -55°C ~ +155°C; Idc - 40°C: 1.2A; S.R.F.: *; Irms: *; DCR: 0.15Ω; Technology: Power Shielded; Published: 07.04.2019; Publisher: Hefest; Mount Type: SMT; Package: SD-75; ComponentLink1Description: Datasheet Link; ComponentLink1URL: https://store.comet.bg/download-file.php?id=443; RoHS: Y; Ztyp@1GHz: * Ω; Manufacturer Alternate: *; Supplier 1: Comet; Supplier Part Number 1: CL33uH SD75; Package-mm: 7.3x7.3x5mm; Part Number Alternate: *; Price: *; Ind: 33u
signal-integrity model Inductor
simulation model Inductor
footprint Dr SD-75 (7.3x7.3x5mm)
pins: 1, 2
1 alternate drawing of the same symbol

## L SD-75        47u
designator L?, comment value 47u  (hidden comment: 47uH)
1 A     0.18Ω  7.3x7.3x5mm; Part Number: SD75 470M - 864823NP; Manufacturer: COILS; TYPE: Inductors; Isat: 0.63A/L 90%; Idc - 40°C: 1A; Material: Ferrite; ZTyp@100MHz: * Ω; Tolerance %: ±20%; Temperature Range: -55°C ~ +155°C; Irms: *; S.R.F.: *; DCR: 0.18Ω; Technology: Power Shielded; Published: 07.04.2019; Publisher: Hefest; Mount Type: SMT; Package: SD-75; ComponentLink1Description: Datasheet Link; ComponentLink1URL: https://store.comet.bg/download-file.php?id=443; RoHS: Y; Ztyp@1GHz: * Ω; Manufacturer Alternate: *; Supplier 1: Comet; Supplier Part Number 1: CL47uH SD75; Package-mm: 7.3x7.3x5mm; Part Number Alternate: *; Price: *; Ind: 47u
signal-integrity model Inductor
simulation model Inductor
footprint Dr SD-75 (7.3x7.3x5mm)
pins: 1, 2
1 alternate drawing of the same symbol

## L SDI-104R 1m
designator L?, comment value 1m  (hidden comment: 1mH)
0.48A      3Ω 10x11x3.8mm; Part Number: SDI 104R - 101M; Manufacturer: CORE MASTER; TYPE: Inductors; Material: Ferrite; ZTyp@100MHz: * Ω; Package-mm: 10x11x4mm; Tolerance %: ±20%; Isat: 0.7A/L 90%; Temperature Range: -55°C ~ +155°C; Irms: *; S.R.F.: *; DCR: 3Ω; Technology: Power Shielded; Published: 07.04.2019; Publisher: Hefest; Mount Type: SMT; Package: SDI 104R - 102M; ComponentLink1Description: Datasheet Link; ComponentLink1URL: https://store.comet.bg/download-file.php?id=6937; RoHS: Y; Ztyp@1GHz: * Ω; Manufacturer Alternate: *; Supplier 1: Comet; Supplier Part Number 1: CL1.0mH SDI104R (DRH104R); Part Number Alternate: *; Price: 0.92; Idc - 40°C: 0.48A; Ind: 1m
signal-integrity model Inductor
simulation model Inductor
footprint Dr DRH-104
pins: 1, 2
1 alternate drawing of the same symbol

## L SDI-104R 100u
designator L?, comment value 100u  (hidden comment: 100uH)
1.35A   0.3Ω 10x11x3.8mm; Part Number: SDI 104R - 101M; Manufacturer: CORE MASTER; TYPE: Inductors; Material: Ferrite; ZTyp@100MHz: * Ω; Package-mm: 10x11x4mm; Tolerance %: ±20%; Isat: 0.7A/L 90%; Temperature Range: -55°C ~ +155°C; Irms: *; S.R.F.: *; DCR: 0.3Ω; Technology: Power Shielded; Published: 07.04.2019; Publisher: Hefest; Mount Type: SMT; Package: DRH-104; ComponentLink1Description: Datasheet Link; ComponentLink1URL: https://store.comet.bg/download-file.php?id=6937; RoHS: Y; Ztyp@1GHz: * Ω; Manufacturer Alternate: *; Supplier 1: Comet; Supplier Part Number 1: CL100uH SDI104R (DRH104R); Part Number Alternate: *; Price: 0.92; Idc - 40°C: 1.35A; Ind: 100u
signal-integrity model Inductor
simulation model Inductor
footprint Dr DRH-104
pins: 1, 2
1 alternate drawing of the same symbol

## L SMPI12065         3.3u
designator L?, comment value 3.3u  (hidden comment: 33uH)
35A   6.8mΩ 13.5x12.8x6.5mm; Part Number: SDI 104R - 101M; Manufacturer: CORE MASTER; TYPE: Inductors; DCR: 9.2mΩ; Material: Ferrite; ZTyp@100MHz: * Ω; Package-mm: 13.2x12.8x6.5mm; Tolerance %: ±20%; Idc - 40°C: 30A; Isat: 0.7A/L 90%; Temperature Range: -55°C ~ +155°C; Irms: *; S.R.F.: *; Technology: Power Shielded; Published: 07.04.2019; Publisher: Hefest; Mount Type: SMT; Package: SMPI12065-3R3M; ComponentLink1Description: Datasheet Link; ComponentLink1URL: https://store.comet.bg/download-file.php?id=14449; RoHS: Y; Ztyp@1GHz: * Ω; Manufacturer Alternate: *; Supplier 1: Comet; Supplier Part Number 1: CL3.3uH SMPI12065; Part Number Alternate: *; Price: 2.19; Ind: 3.3u
signal-integrity model Inductor
simulation model Inductor
footprint Dr SMPI12065
pins: 1, 2
1 alternate drawing of the same symbol

## L SPI-0703(SD73)  2.2u
designator L?, comment value 2.2u  (hidden comment: 22uH)
1.2A   28mΩ  7.3x7.3x3.5mm; Part Number: SD73 2R2M - 863208NP; TYPE: Inductors; Isat: 2.1/L 90%; Idc - 40°C: 2.2A; DCR: 42mΩ; Material: Ferrite; ZTyp@100MHz: * Ω; Tolerance %: ±20%; Temperature Range: -55°C ~ +155°C; Manufacturer: *; Irms: *; S.R.F.: *; Technology: Power Shielded; Published: 07.04.2019; Publisher: Hefest; Mount Type: SMT; Package: SD-73; ComponentLink1Description: Datasheet Link; ComponentLink1URL: https://store.comet.bg/download-file.php?id=444; RoHS: Y; Ztyp@1GHz: * Ω; Manufacturer Alternate: *; Supplier 1: Comet; Supplier Part Number 1: *; Package-mm: 7.3x7.3x3.5mm; Part Number Alternate: *; Price: *; Ind: 2.2u
signal-integrity model Inductor
simulation model Inductor
footprint Dr SD-73 (7x7x3.2mm)
pins: 1, 2
1 alternate drawing of the same symbol

## L SPI-0703(SD73)  4.7u
designator L?, comment value 4.7u  (hidden comment: 47uH)
1.5A   61mΩ  7.3x7.3x3.5mm; TYPE: Inductors; Isat: 1.5A/L 90%; Idc - 40°C: 1.9A; Material: Ferrite; ZTyp@100MHz: * Ω; Tolerance %: ±20%; Temperature Range: -55°C ~ +155°C; Part Number: *; Manufacturer: *; Irms: *; S.R.F.: *; DCR: 61mΩ; Technology: Power Shielded; Published: 07.04.2019; Publisher: Hefest; Mount Type: SMT; Package: SD-73; ComponentLink1Description: Datasheet Link; ComponentLink1URL: https://store.comet.bg/download-file.php?id=444; RoHS: Y; Ztyp@1GHz: * Ω; Manufacturer Alternate: *; Supplier 1: Comet; Supplier Part Number 1: *; Package-mm: 7.3x7.3x3.5mm; Part Number Alternate: *; Price: *; Ind: 4.7u
signal-integrity model Inductor
simulation model Inductor
footprint Dr SD-73 (7x7x3.2mm)
pins: 1, 2
1 alternate drawing of the same symbol